# Altium footprint library HMC5883L.PcbLib: 1 footprints
Each footprint in its own frame and in the unit in brackets; x right, y up, seen from the top. Pads: shape width x height; smd on the part's side, far side on the other; paste and mask are expansions set on the pad; w line width, h text height; cw(c..) or ccw(c..) is an arc to the next point about the centre after c.
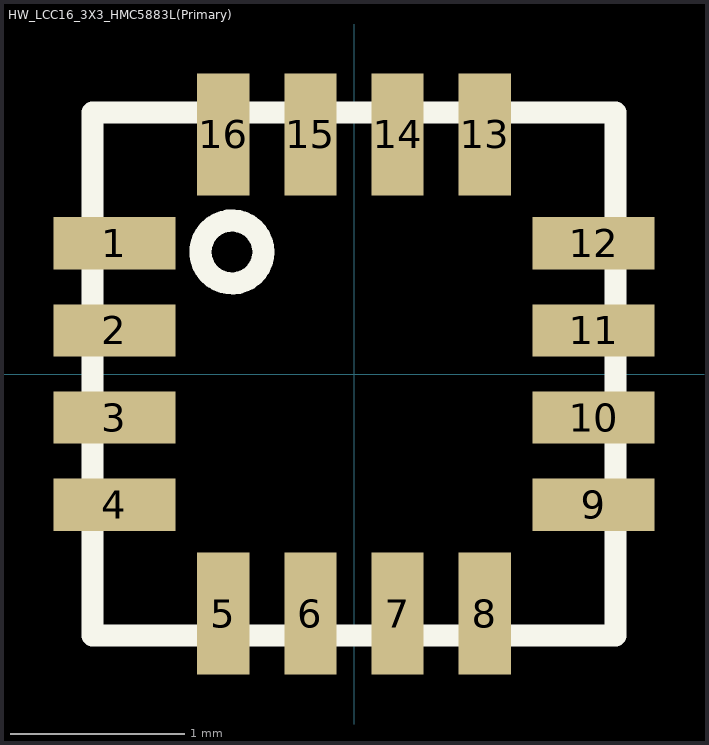
[diagram p0: the footprint, top view; thin cyan lines are the x and y axes]

## HW_LCC16_3X3_HMC5883L(Primary) [mm]
pads (16):
  rect 0.7x0.3 smd paste-25.4 mask-25.4: 1(-1.375,0.75) 2(-1.375,0.25) 3(-1.375,-0.25) 4(-1.375,-0.75) 9(1.375,-0.75) 10(1.375,-0.25) 11(1.375,0.25) 12(1.375,0.75)
  rect 0.3x0.7 smd paste-25.4 mask-25.4: 5(-0.75,-1.375) 6(-0.25,-1.375) 7(0.25,-1.375) 8(0.75,-1.375) 13(0.75,1.375) 14(0.25,1.375) 15(-0.25,1.375) 16(-0.75,1.375)
Top Overlay:
  circle w0.127: c-0.7,0.7 r0.18
  lines w0.127: -1.5,-1.5 1.5,-1.5 1.5,1.5 -1.5,1.5 -1.5,-1.5
Top Paste:
  region: -1.725,0.6 -1.025,0.6 -1.025,0.9 -1.725,0.9
  region: -1.725,0.1 -1.025,0.1 -1.025,0.4 -1.725,0.4
  region: -1.725,-0.4 -1.025,-0.4 -1.025,-0.1 -1.725,-0.1
  region: -1.725,-0.9 -1.025,-0.9 -1.025,-0.6 -1.725,-0.6
  region: -0.6,-1.725 -0.6,-1.025 -0.9,-1.025 -0.9,-1.725
  region: -0.1,-1.725 -0.1,-1.025 -0.4,-1.025 -0.4,-1.725
  region: 0.4,-1.725 0.4,-1.025 0.1,-1.025 0.1,-1.725
  region: 0.9,-1.725 0.9,-1.025 0.6,-1.025 0.6,-1.725
  region: 1.725,-0.6 1.025,-0.6 1.025,-0.9 1.725,-0.9
  region: 1.725,-0.1 1.025,-0.1 1.025,-0.4 1.725,-0.4
  region: 1.725,0.4 1.025,0.4 1.025,0.1 1.725,0.1
  region: 1.725,0.9 1.025,0.9 1.025,0.6 1.725,0.6
  region: 0.6,1.725 0.6,1.025 0.9,1.025 0.9,1.725
  region: 0.1,1.725 0.1,1.025 0.4,1.025 0.4,1.725
  region: -0.4,1.725 -0.4,1.025 -0.1,1.025 -0.1,1.725
  region: -0.9,1.725 -0.9,1.025 -0.6,1.025 -0.6,1.725
Top Solder:
  region: -1.825,0.5 -0.925,0.5 -0.925,1 -1.825,1
  region: -1.825,0 -0.925,0 -0.925,0.5 -1.825,0.5
  region: -1.825,-0.5 -0.925,-0.5 -0.925,0 -1.825,0
  region: -1.825,-1 -0.925,-1 -0.925,-0.5 -1.825,-0.5
  region: -0.5,-1.825 -0.5,-0.925 -1,-0.925 -1,-1.825
  region: 0,-1.825 0,-0.925 -0.5,-0.925 -0.5,-1.825
  region: 0.5,-1.825 0.5,-0.925 0,-0.925 0,-1.825
  region: 1,-1.825 1,-0.925 0.5,-0.925 0.5,-1.825
  region: 1.825,-0.5 0.925,-0.5 0.925,-1 1.825,-1
  region: 1.825,0 0.925,0 0.925,-0.5 1.825,-0.5
  region: 1.825,0.5 0.925,0.5 0.925,0 1.825,0
  region: 1.825,1 0.925,1 0.925,0.5 1.825,0.5
  region: 0.5,1.825 0.5,0.925 1,0.925 1,1.825
  region: 0,1.825 0,0.925 0.5,0.925 0.5,1.825
  region: -0.5,1.825 -0.5,0.925 0,0.925 0,1.825
  region: -1,1.825 -1,0.925 -0.5,0.925 -0.5,1.825